# Altium schematic symbol library GeneralConnectors.SchLib: 12 symbols
Pins are listed as number, name and electrical type; pins without a type are passive.

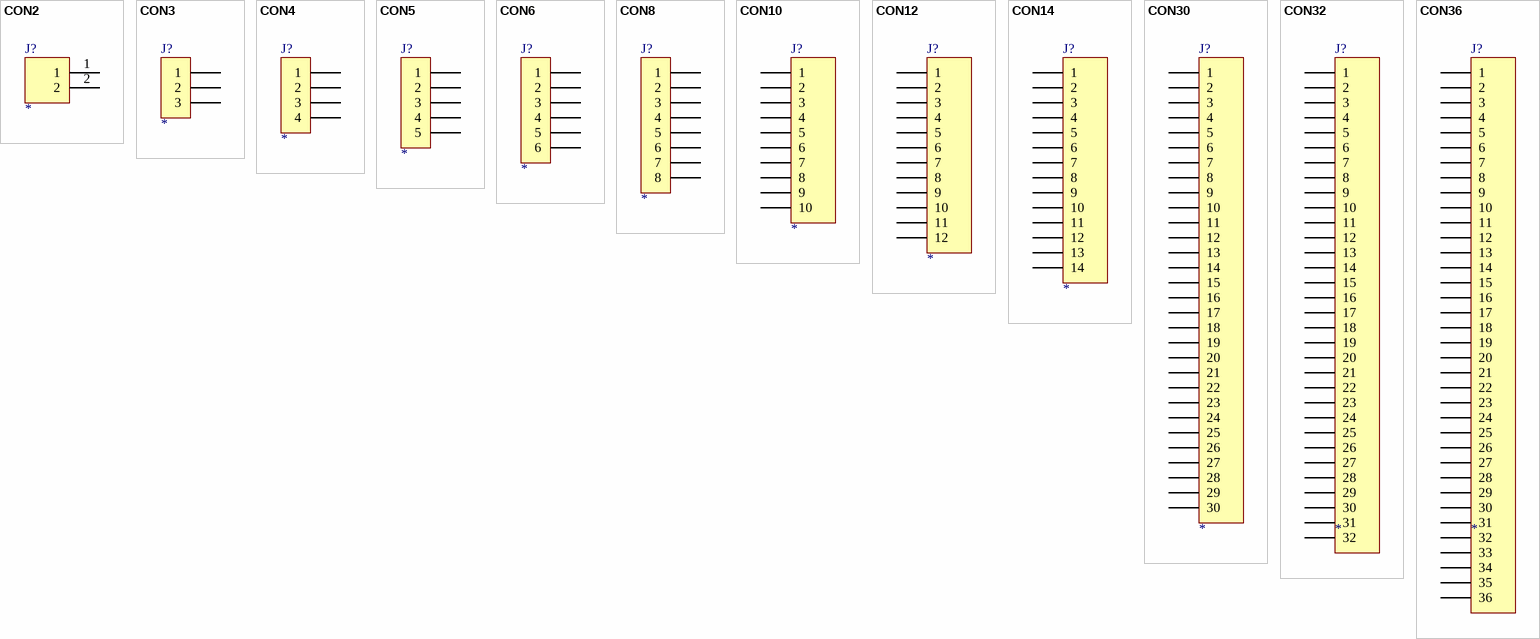
[diagram p0: symbols CON2 to CON36]

## CON2
designator J?
2 pin header
footprint DF3-2P-2DS
footprint 2PIN_2MM
footprint 2PIN_2.54MM
footprint DF3A-2P-2DS
footprint MOLEX_SH-2P-RA (Molex Sherlock 2 mm 2 pin right angle header)
footprint MOLEX_SH-2P-S (Molex Sherlock 2 mm 2 pin straight header)
pins: 1, 2
2 alternate drawings of the same symbol

## CON3
designator J?
3 pin header
footprint 3PIN_2MM
footprint 3PIN_2.54MM
footprint DF3A-3P-2DS
footprint MOLEX_SH-3P-RA (Molex Sherlock 2 mm 3 pin right angle header)
footprint MOLEX_SH-3P-S (Molex Sherlock 2 mm 3 pin straight header)
pins: 1, 2, 3

## CON4
designator J?
4 pin header
footprint HIROSE_MQ172_PGM_CONNECTOR
footprint 4PIN_2.54MM
footprint 4PIN_2MM_EDGE
footprint MOLEX_SH-4P-RA (Molex Sherlock 2 mm 4 pin right angle header)
footprint MOLEX_SH-4P-S (Molex Sherlock 2 mm 4 pin straight header)
pins: 1, 2, 3, 4

## CON5
designator J?
5 pin header
footprint 5PIN_2.54MM
footprint DF3A-5P-2DS
pins: 1, 2, 3, 4, 5

## CON6
designator J?
6 pin header
footprint 6PIN_100MIL
footprint 6PIN_EDGE_HEADER_100MIL
footprint MOLEX_SH-6P-RA (Molex Sherlock 2 mm 6 pin right angle header)
footprint 6PIN_2.54MM
footprint 6PIN_2.54MM_STRAIGHT
pins: 1, 2, 3, 4, 5, 6

## CON8
designator J?
8 pin header
footprint 8CH_ANALOG_HEADER
footprint SULLINS_8_PIN_BUS_CARRIER
footprint WM18114
footprint MOLEX_SH-8P-S (Molex Sherlock 2 mm 8pin straight header)
footprint 8PIN_2.54MM
pins: 1, 2, 3, 4, 5, 6, 7, 8

## CON10
designator J?
Connector
footprint MOLEX_SH-10P-S (Molex Sherlock 2 mm 10pin straight header)
footprint 10PIN_2.54MM
pins: 1, 2, 3, 4, 5, 6, 7, 8, 9, 10

## CON12
designator J?
Connector
footprint 12PIN_2.54MM
pins: 1, 2, 3, 4, 5, 6, 7, 8, 9, 10, 11, 12

## CON14
designator J?
Connector
footprint 14PIN_2.54MM_DOUBLE
pins: 1, 2, 3, 4, 5, 6, 7, 8, 9, 10, 11, 12, 13, 14

## CON30
designator J?
Connector
pins: 1, 2, 3, 4, 5, 6, 7, 8, 9, 10, 11, 12, 13, 14, 15, 16, 17, 18, 19, 20, 21, 22, 23, 24, 25, 26, 27, 28, 29, 30

## CON32
designator J?
Connector
footprint 32PIN_2.54MM_DOUBLE
pins: 1, 2, 3, 4, 5, 6, 7, 8, 9, 10, 11, 12, 13, 14, 15, 16, 17, 18, 19, 20, 21, 22, 23, 24, 25, 26, 27, 28, 29, 30, 31, 32

## CON36
designator J?
Connector
footprint 36PIN_2.54MM_DOUBLE
pins: 1, 2, 3, 4, 5, 6, 7, 8, 9, 10, 11, 12, 13, 14, 15, 16, 17, 18, 19, 20, 21, 22, 23, 24, 25, 26, 27, 28, 29, 30, 31, 32, 33, 34, 35, 36